# EAGLE library part RS_232C_IF (library PartsForProto)
RS-232Cインターフェース
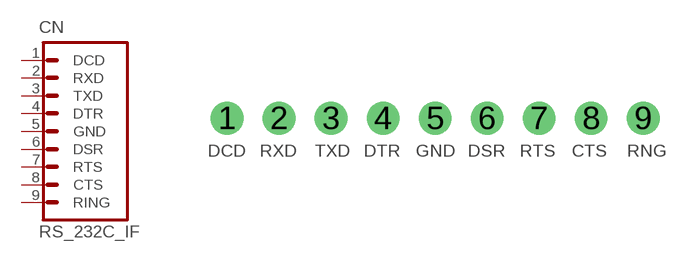
[diagram p27: symbol with the pads of RS_232C_IF_9PIN; footprint RS_232C_IF_9PIN]

Designator prefix CN

## RS_232C_IF  [RS_232C_IF_9PIN]
1  DCD
2  RXD
3  TXD
4  DTR
5  GND  pas
6  DSR
7  RTS
8  CTS
9  RING

## Footprint RS_232C_IF_9PIN (pad centres in mm)
PIN HEADER
drill 1 pad 1.6: 1 0,0; 2 2.54,0; 3 5.08,0; 4 7.62,0; 5 10.16,0; 6 12.7,0; 7 15.24,0; 8 17.78,0; 9 20.32,0